# Altium footprint library StepperMotor.PcbLib: 31 footprints (part 1 of 2)
Each footprint in its own frame and in the unit in brackets; x right, y up, seen from the top. Pads: shape width x height; smd on the part's side, far side on the other; paste and mask are expansions set on the pad; w line width, h text height; cw(c..) or ccw(c..) is an arc to the next point about the centre after c.
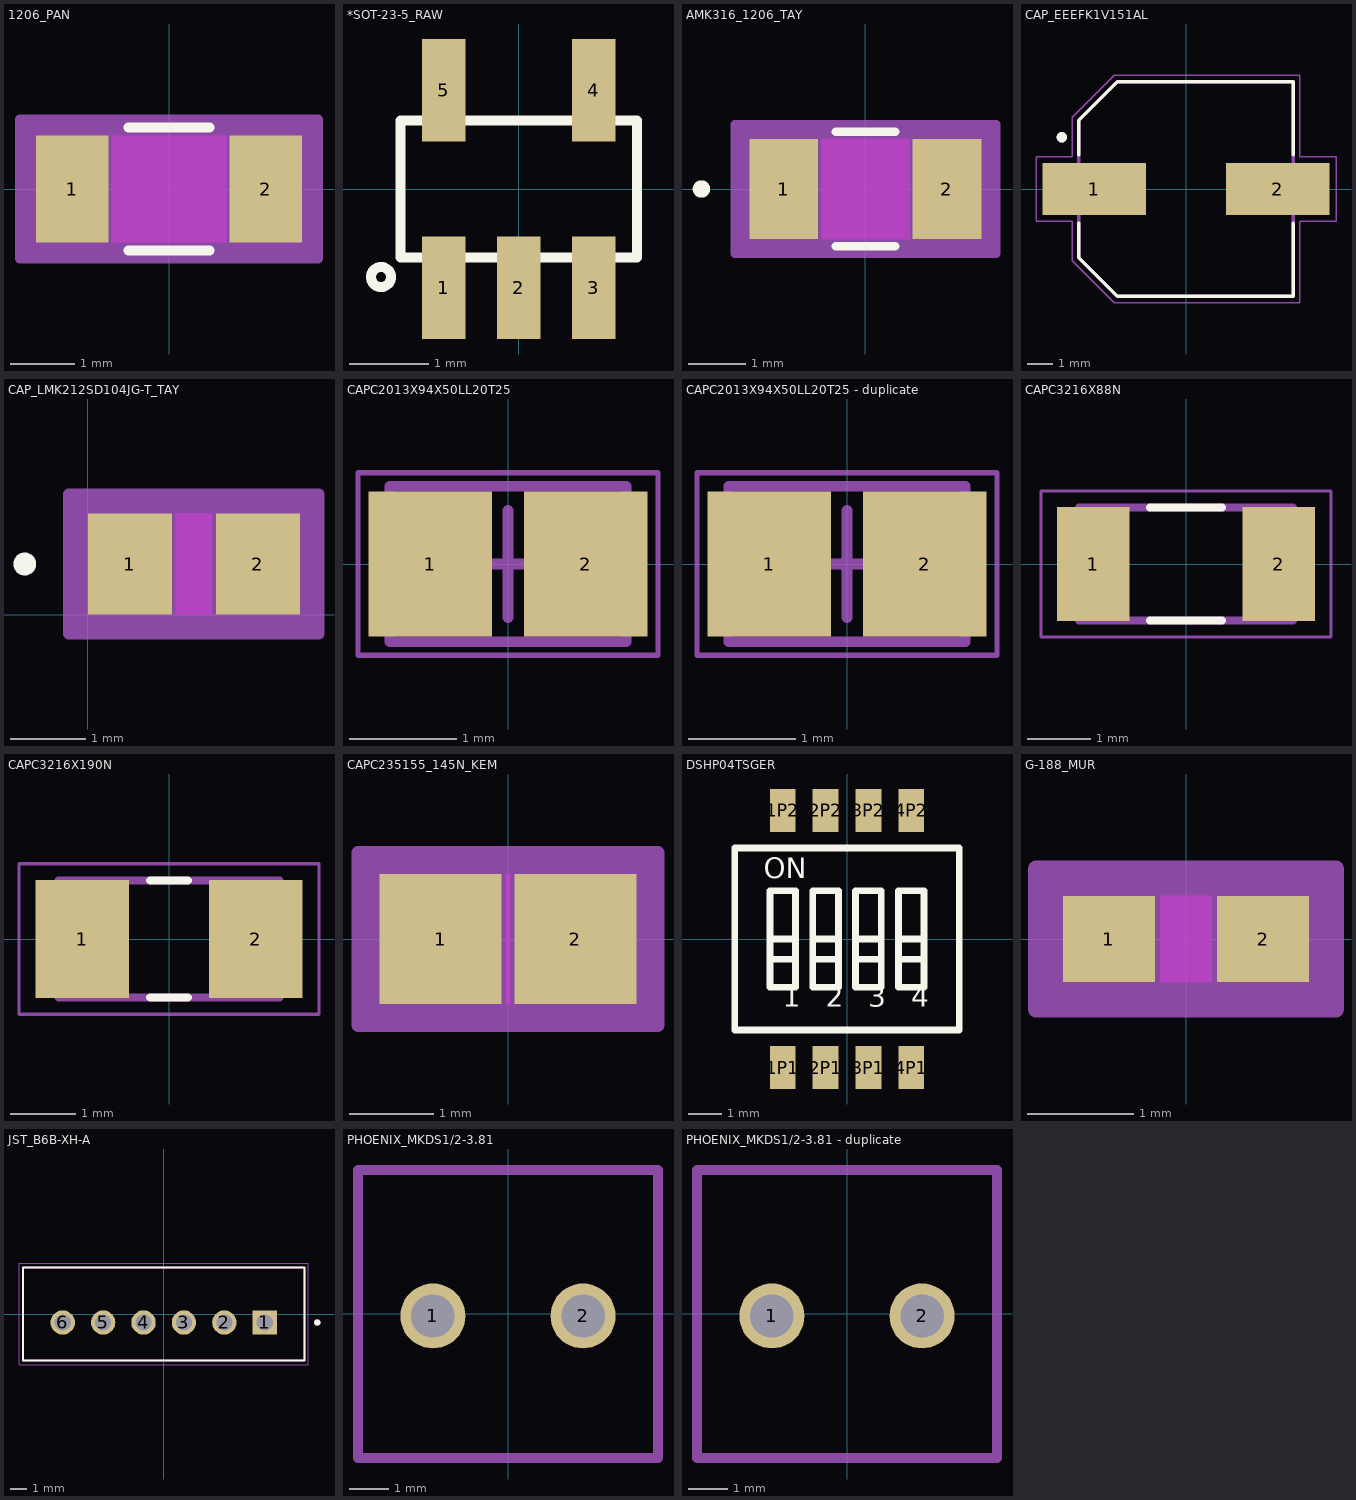
[diagram p0: the footprints below, top view; thin cyan lines are the x and y axes]

## 1206_PAN [mil]
pads (2):
  rect 44x65 smd paste+0 mask+0: 1(-59,0) 2(59,0)
Top Layer keep-out:
  region: -35,-30.5 -35,30.5 35,30.5 35,-30.5
Top Overlay:
  lines w6: -24.89,-37.5 24.89,-37.5 ; -24.89,37.5 24.89,37.5
Keep-Out Layer:
  region: -35,-32.5 -35,32.5 35,32.5 35,-32.5
Mechanical 13:
  lines w1: -67,-32.5 -67,32.5 ; -67,-32.5 -37,-32.5 -37,32.5 -67,32.5 ; -67,-32.5 67,-32.5 ; -67,-32.5 -67,32.5 ; -67,32.5 67,32.5 ; 67,-32.5 37,-32.5 37,32.5 67,32.5 ; 67,-32.5 67,32.5 ; 67,-32.5 67,32.5
Mechanical 15:
  region: 91,-42.5 -91,-42.5 -91,42.5 91,42.5
  lines w6: -91,-42.5 -91,42.5 91,42.5 91,-42.5 -91,-42.5
3D body "1206_PAN.step": height 27.99, standoff 0, extent -67.01,-32.52 67.01,32.52

## *SOT-23-5_RAW [mm]
pads (5):
  rect 0.55x1.3 smd: 1(-0.95,-1.25) 2(0,-1.25) 3(0.95,-1.25) 4(0.95,1.25) 5(-0.95,1.25)
Top Overlay:
  circle w0.127: c-1.745,-1.115 r0.127
  lines w0.127: -1.5,-0.87 1.5,-0.87 1.5,0.87 -1.5,0.87 -1.5,-0.87

## AMK316_1206_TAY [mm]
pads (2):
  rect 1.206x1.75 smd paste+0 mask+0: 1(-1.428,0) 2(1.428,0)
Top Layer keep-out:
  region: -0.774,-0.824 -0.774,0.824 0.774,0.824 0.774,-0.824
Top Overlay:
  circle w0.152: c-2.869,0 r0.076
  lines w0.152: -0.517,-1.002 0.517,-1.002 ; -0.517,1.002 0.517,1.002
Keep-Out Layer:
  region: -0.774,-0.875 -0.774,0.875 0.774,0.875 0.774,-0.875
Mechanical 13:
  circle w0: c-1.301,0 r0.076
  lines w0.025: -1.675,-0.875 -1.675,0.875 ; -1.675,-0.875 -0.825,-0.875 -0.825,0.875 -1.675,0.875 ; -1.675,-0.875 1.675,-0.875 ; -1.675,-0.875 -1.675,0.875 ; -1.675,0.875 1.675,0.875 ; 1.675,-0.875 0.825,-0.875 0.825,0.875 1.675,0.875 ; 1.675,-0.875 1.675,0.875 ; 1.675,-0.875 1.675,0.875
Mechanical 15:
  region: 2.285,-1.129 -2.285,-1.129 -2.285,1.129 2.285,1.129
  lines w0.152: -2.285,-1.129 -2.285,1.129 2.285,1.129 2.285,-1.129 -2.285,-1.129
3D body "AMK316_1206_TAY.step": height 1.8, standoff 0, extent -1.675,-0.875 1.675,0.875

## CAP_EEEFK1V151AL [mm]
pads (2):
  rect 4x2 smd: 1(-3.55,0) 2(3.55,0)
Top Overlay:
  circle w0.2: c-4.8,2 r0.1
  lines w0.127: -4.15,-1.32 -4.15,-2.65 -2.65,-4.15 4.15,-4.15 4.15,-1.32 ; -4.15,1.32 -4.15,2.65 -2.65,4.15 4.15,4.15 4.15,1.32
Mechanical 13:
  circle w0.2: c-4.8,2 r0.1
  lines w0.127: -4.15,-2.65 -2.65,-4.15 4.15,-4.15 4.15,4.15 -2.65,4.15 -4.15,2.65 -4.15,-2.65
Mechanical 15:
  lines w0.05: -5.8,-1.25 -5.8,1.25 -4.4,1.25 -4.4,2.775 -2.775,4.4 4.4,4.4 4.4,1.25 5.8,1.25 5.8,-1.25 4.4,-1.25 4.4,-4.4 -2.775,-4.4 -4.4,-2.775 -4.4,-1.25 -5.8,-1.25
3D body "step_temp.STEP": height 10.2, standoff 0, extent -4.85,-4.15 4.85,4.15

## CAP_LMK212SD104JG-T_TAY [mil]
pads (2):
  rect 44x53 smd paste+0 mask+0: 1(22.12,26.61) 2(89.12,26.61)
Top Layer keep-out:
  region: 46.12,2.11 46.12,51.11 65.12,51.11 65.12,2.11
Top Overlay:
  circle w6: c-32.88,26.61 r3
Keep-Out Layer:
  region: 46.12,0.11 46.12,53.11 65.12,53.11 65.12,0.11
Mechanical 13:
  circle w0: c27.12,26.61 r3
  lines w1: 14.12,0.11 14.12,53.11 ; 14.12,0.11 97.12,0.11 ; 14.12,0.11 44.12,0.11 44.12,53.11 14.12,53.11 ; 14.12,0.11 14.12,53.11 ; 14.12,53.11 97.12,53.11 ; 97.12,0.11 97.12,53.11 ; 97.12,0.11 97.12,53.11 ; 97.12,0.11 67.12,0.11 67.12,53.11 97.12,53.11
Mechanical 15:
  region: 121.12,-9.89 -9.88,-9.89 -9.88,63.11 121.12,63.11
  lines w6: -9.88,-9.89 121.12,-9.89 121.12,63.11 -9.88,63.11 -9.88,-9.89
3D body "CAP_LMK212SD104JG-T_TAY.step": height 52.99, standoff 0, extent 14.12,0.12 97.11,53.11

## CAPC2013X94X50LL20T25 [mm] "Chip Capacitor, 2-Leads, Body 2.01x1.25mm, IPC High Density"
height 0.94
pads (2):
  rect 1.15x1.35 smd: 1(-0.725,0) 2(0.725,0)
Mechanical 13:
  lines w0.1: -1.105,-0.725 -1.105,0.725 1.105,0.725 1.105,-0.725 -1.105,-0.725
Mechanical 15:
  lines w0.05: -1.4,-0.85 -1.4,0.85 1.4,0.85 1.4,-0.85 -1.4,-0.85
  lines w0.1: -0.5,0 0.5,0 ; 0,-0.5 0,0.5
3D body: height 0.94, standoff 0, extent -0.605,-0.725 0.605,0.725
3D body: height 0.94, standoff 0, extent -1.105,-0.725 -0.605,0.725
3D body: height 0.94, standoff 0, extent 0.605,-0.725 1.105,0.725

## CAPC2013X94X50LL20T25 - duplicate [mm] "Chip Capacitor, 2-Leads, Body 2.01x1.25mm, IPC High Density"
height 0.94
pads (2):
  rect 1.15x1.35 smd: 1(-0.725,0) 2(0.725,0)
Mechanical 13:
  lines w0.1: -1.105,-0.725 1.105,-0.725 1.105,0.725 -1.105,0.725 -1.105,-0.725
Mechanical 15:
  lines w0.05: -1.4,-0.85 1.4,-0.85 1.4,0.85 -1.4,0.85 -1.4,-0.85
  lines w0.1: -0.5,0 0.5,0 ; 0,-0.5 0,0.5
3D body: height 0.94, standoff 0, extent 0.605,-0.725 1.105,0.725
3D body: height 0.94, standoff 0, extent -1.105,-0.725 -0.605,0.725
3D body: height 0.94, standoff 0, extent -0.605,-0.725 0.605,0.725

## CAPC3216X88N [mm]
pads (2):
  rect 1.16x1.82 smd: 1(-1.475,0) 2(1.475,0)
Top Overlay:
  lines w0.127: -0.57,-0.9 0.57,-0.9 ; -0.57,0.9 0.57,0.9
Mechanical 13:
  lines w0.127: -1.7,-0.9 1.7,-0.9 1.7,0.9 -1.7,0.9 -1.7,-0.9
Mechanical 15:
  lines w0.05: -2.308,-1.158 2.308,-1.158 2.308,1.158 -2.308,1.158 -2.308,-1.158

## CAPC3216X190N [mm]
pads (2):
  rect 1.44x1.82 smd: 1(-1.336,0) 2(1.336,0)
Top Overlay:
  lines w0.127: -0.29,-0.9 0.29,-0.9 ; -0.29,0.9 0.29,0.9
Mechanical 13:
  lines w0.127: -1.7,-0.9 1.7,-0.9 1.7,0.9 -1.7,0.9 -1.7,-0.9
Mechanical 15:
  lines w0.05: -2.308,-1.158 2.308,-1.158 2.308,1.158 -2.308,1.158 -2.308,-1.158
3D body "step_temp.STEP": height 1.9, standoff 0, extent -1.6,-0.8 1.6,0.8

## CAPC235155_145N_KEM [mm]
pads (2):
  rect 1.456x1.55 smd paste+0 mask+0: 1(-0.803,0) 2(0.803,0)
Top Layer keep-out:
  region: -0.024,-0.724 -0.024,0.724 0.024,0.724 0.024,-0.724
Keep-Out Layer:
  region: -0.024,-0.775 -0.024,0.775 0.024,0.775 0.024,-0.775
Mechanical 13:
  lines w0.025: -1.175,-0.775 -1.175,0.775 ; -1.175,-0.775 -0.425,-0.775 -0.425,0.775 -1.175,0.775 ; -1.175,-0.775 1.175,-0.775 ; -1.175,-0.775 -1.175,0.775 ; -1.175,0.775 1.175,0.775 ; 1.175,-0.775 0.425,-0.775 0.425,0.775 1.175,0.775 ; 1.175,-0.775 1.175,0.775 ; 1.175,-0.775 1.175,0.775
Mechanical 15:
  region: 1.785,-1.029 -1.785,-1.029 -1.785,1.029 1.785,1.029
  lines w0.152: -1.785,-1.029 -1.785,1.029 1.785,1.029 1.785,-1.029 -1.785,-1.029
3D body "CAPC235155_145N_KEM.step": height 1.45, standoff 0, extent -1.175,-0.775 1.175,0.775

## DSHP04TSGER [mm]
pads (8):
  rect 0.76x1.27 smd: 1P1(-1.905,-3.81) 1P2(-1.905,3.81) 2P1(-0.635,-3.81) 2P2(-0.635,3.81) 3P1(0.635,-3.81) 3P2(0.635,3.81) 4P1(1.905,-3.81) 4P2(1.905,3.81)
Top Overlay:
  lines w0.2: -2.285,-0.6 -2.285,0 ; -2.285,-0.6 -2.285,-1.43 -1.525,-1.43 -1.525,-0.6 ; -2.285,-0.6 -1.525,-0.6 ; -2.285,0 -2.285,1.43 -1.525,1.43 -1.525,0 ; -2.285,0 -1.525,0 ; -1.525,-0.6 -1.525,0 ; -1.015,-0.6 -1.015,0 ; -1.015,-0.6 -1.015,-1.43 -0.255,-1.43 -0.255,-0.6 ; -1.015,-0.6 -0.255,-0.6 ; -1.015,0 -1.015,1.43 -0.255,1.43 -0.255,0 ; -1.015,0 -0.255,0 ; -0.255,-0.6 -0.255,0 ; 0.255,-0.6 0.255,0 ; 0.255,-0.6 0.255,-1.43 1.015,-1.43 1.015,-0.6 ; 0.255,-0.6 1.015,-0.6 ; 0.255,0 0.255,1.43 1.015,1.43 1.015,0 ; 0.255,0 1.015,0 ; 1.015,-0.6 1.015,0 ; 1.525,-0.6 1.525,0 ; 1.525,-0.6 1.525,-1.43 2.285,-1.43 2.285,-0.6 ; 1.525,-0.6 2.285,-0.6 ; 1.525,0 1.525,1.43 2.285,1.43 2.285,0 ; 1.525,0 2.285,0 ; 2.285,-0.6 2.285,0 ; -3.33,-2.7 3.33,-2.7 3.33,2.7 -3.33,2.7 -3.33,-2.7
  text "ON" at -2.473,1.802 h0.6
  text "1" at -1.908,-2.003 h0.6
  text "2" at -0.636,-2.004 h0.6
  text "3" at 0.636,-2.003 h0.6
  text "4" at 1.906,-2.001 h0.6

## G-188_MUR [mil]
pads (2):
  rect 34x32 smd paste+0 mask+0: 1(-28.5,0) 2(28.5,0)
Top Layer keep-out:
  region: -9.5,-14 -9.5,14 9.5,14 9.5,-14
Keep-Out Layer:
  region: -9.5,-16 -9.5,16 9.5,16 9.5,-16
Mechanical 13:
  lines w1: -31.5,-16 -31.5,16 ; -31.5,-16 31.5,-16 ; -31.5,-16 -11.5,-16 -11.5,16 -31.5,16 ; -31.5,-16 -31.5,16 ; -31.5,16 31.5,16 ; 31.5,-16 31.5,16 ; 31.5,-16 31.5,16 ; 31.5,-16 11.5,-16 11.5,16 31.5,16
Mechanical 15:
  region: 55.5,-26 -55.5,-26 -55.5,26 55.5,26
  lines w6: -55.5,-26 55.5,-26 55.5,26 -55.5,26 -55.5,-26
3D body "G-188_MUR.step": height 35, standoff 0, extent -31.5,-15.98 31.5,15.98

## JST_B6B-XH-A [mm]
height 7
pads (6):
  rect 1.508x1.508 / inner round 1.508 / far side rect 1.508x1.508 hole 1: 1(6.25,-0.525)
  round 1.508 hole 1: 2(3.75,-0.525) 3(1.25,-0.525) 4(-1.25,-0.525) 5(-3.75,-0.525) 6(-6.25,-0.525)
Top Overlay:
  circle w0.2: c9.5,-0.525 r0.1
  lines w0.127: -8.7,-2.875 8.7,-2.875 8.7,2.875 -8.7,2.875 -8.7,-2.875
Mechanical 13:
  circle w0.2: c9.5,-0.525 r0.1
  lines w0.127: -8.7,-2.875 8.7,-2.875 8.7,2.875 -8.7,2.875 -8.7,-2.875
Mechanical 15:
  lines w0.05: -8.95,-3.125 8.95,-3.125 8.95,3.125 -8.95,3.125 -8.95,-3.125

## PCBComponent_1 [mm]

## PHOENIX_MKDS1/2-3.81 [mm]
pads (2):
  round 1.65 hole 1.1: 1(-1.906,-0.05) 2(1.904,-0.05)
Mechanical 13:
  lines w0.254: -3.805,-3.651 3.805,-3.651 3.805,3.649 -3.805,3.649 -3.805,-3.651

## PHOENIX_MKDS1/2-3.81 - duplicate [mm]
pads (2):
  round 1.65 hole 1.1: 1(-1.906,-0.05) 2(1.904,-0.05)
Mechanical 13:
  lines w0.254: -3.805,-3.651 3.805,-3.651 3.805,3.649 -3.805,3.649 -3.805,-3.651